# EAGLE library part 87758-3416 (library con-molex)
34 Pin - 2mm Dual Row Single Wafer, Vertical T/H HDR Source: http://www.molex.com/pdm_docs/sd/877580616_sd.pdf
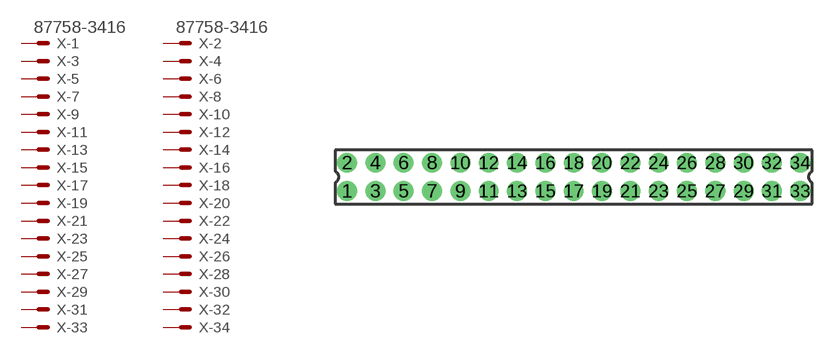
[diagram p193: symbol with the pads of 87758-3416; footprint 87758-3416]

Designator prefix X; gates -1=MV -2=MV -3=M -4=M -5=M -6=M -7=M -8=M -9=M -10=M -11=M -12=M -13=M -14=M -15=M -16=M -17=M -18=M -19=M -20=M -21=M -22=M -23=M -24=M -25=M -26=M -27=M -28=M -29=M -30=M -31=M -32=M -33=M -34=M

## 87758-3416 (MPN: 87758-3416; OC_FARNELL: unknown; OC_NEWARK: 25M5686)  [87758-3416]
1  -1:S  pas
2  -2:S  pas
3  -3:S  pas
4  -4:S  pas
5  -5:S  pas
6  -6:S  pas
7  -7:S  pas
8  -8:S  pas
9  -9:S  pas
10  -10:S  pas
11  -11:S  pas
12  -12:S  pas
13  -13:S  pas
14  -14:S  pas
15  -15:S  pas
16  -16:S  pas
17  -17:S  pas
18  -18:S  pas
19  -19:S  pas
20  -20:S  pas
21  -21:S  pas
22  -22:S  pas
23  -23:S  pas
24  -24:S  pas
25  -25:S  pas
26  -26:S  pas
27  -27:S  pas
28  -28:S  pas
29  -29:S  pas
30  -30:S  pas
31  -31:S  pas
32  -32:S  pas
33  -33:S  pas
34  -34:S  pas

## Footprint 87758-3416 (pad centres in mm)
34 Pin - 2mm Dual Row Single Wafer, Vertical T/H HDR Source: http://www.molex.com/pdm_docs/sd/877580616_sd.pdf
drill 0.9 pad 1.27: 1 -16,-1; 2 -16,1; 3 -14,-1; 4 -14,1; 5 -12,-1; 6 -12,1; 7 -10,-1; 8 -10,1; 9 -8,-1; 10 -8,1; 11 -6,-1; 12 -6,1; 13 -4,-1; 14 -4,1; 15 -2,-1; 16 -2,1; 17 0,-1; 18 0,1; 19 2,-1; 20 2,1; 21 4,-1; 22 4,1; 23 6,-1; 24 6,1; 25 8,-1; 26 8,1; 27 10,-1; 28 10,1; 29 12,-1; 30 12,1; 31 14,-1; 32 14,1; 33 16,-1; 34 16,1